# Altium schematic symbol library SamacSys.SchLib: 2 symbols
Pins are listed as number, name and electrical type; pins without a type are passive.

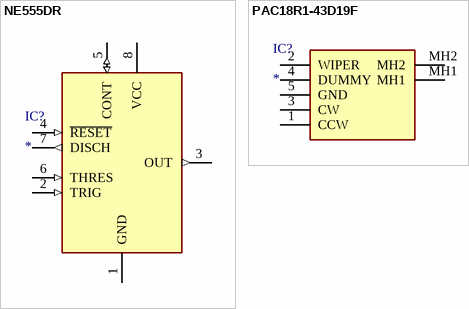
[diagram p0: symbols NE555DR to PAC18R1-43D19F]

## NE555DR
designator IC?
Integrated Circuit; Manufacturer_Name: Texas Instruments; Manufacturer_Part_Number: NE555DR; Datasheet Link: http://www.ti.com/lit/ds/symlink/ne555.pdf; Height: 1.75mm; Mouser Part Number: 595-NE555DR; Mouser Price/Stock: https://www.mouser.com/Search/Refine.aspx?Keyword=595-NE555DR; RS Part Number: 1218414; RS Price/Stock: http://uk.rs-online.com/web/p/products/1218414
footprint SOIC127P600X175-8N
footprint PAC18R141D19F
pins: 1 GND (power), 2 TRIG (in), 3 OUT (out), 4 ~{RESET} (in), 5 CONT (io), 6 THRES (in), 7 DISCH (out), 8 VCC (power)

## PAC18R1-43D19F
designator IC?
Integrated Circuit; Manufacturer_Name: Bourns; Manufacturer_Part_Number: PAC18R1-43D19F; Datasheet Link: https://media.digikey.com/pdf/Data%20Sheets/Bourns%20PDFs/PAC18R_Series_DS.pdf; Height: 29.2mm
footprint PAC18R141D19F
pins: 1 CCW, 2 WIPER, 3 CW, 4 DUMMY, 5 GND, MH1, MH2